# Altium schematic symbol library L717SDB25P1ACH3R.SchLib: 1 symbol
Pins are listed as number, name and electrical type; pins without a type are passive.

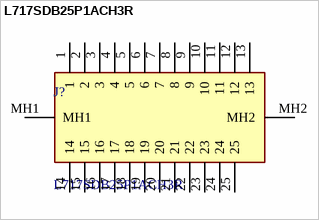
[diagram p0: symbol L717SDB25P1ACH3R]

## L717SDB25P1ACH3R
designator J?
Dsub, Stamped Signal 3A, Right Angle PCB Through Hole, FP=10.40mm (0.409in), Row Pitch 2.54mm, 25 Pin, Flash Gold, Bright Tin Shell+Grounding Dimples, M3 Rear Insert, Ground Tab with Boardlock; Manufacturer_Name: Amphenol Communications Solutions; Geometry.Height: 12.85mm; Manufacturer_Part_Number: L717SDB25P1ACH3R; Mouser Part Number: 523-L717SDB25P1ACH3R; Mouser Price/Stock: https://www.mouser.co.uk/ProductDetail/Amphenol-Commercial-Products/L717SDB25P1ACH3R?qs=wLKqLMNa9uJyoB0Jo64d7Q%3D%3D; Arrow Part Number: *; Arrow Price/Stock: *; Datasheet Link: https://cdn.amphenol-cs.com/media/wysiwyg/files/drawing/l717sdxxxp1ach3r.pdf
footprint L717SDB25P1ACH3R
pins: 1, 2, 3, 4, 5, 6, 7, 8, 9, 10, 11, 12, 13, 14, 15, 16, 17, 18, 19, 20, 21, 22, 23, 24, 25, MH1, MH2